# Altium schematic symbol library raspberryPI_footprint.SchLib: 1 symbol
Pins are listed as number, name and electrical type; pins without a type are passive.

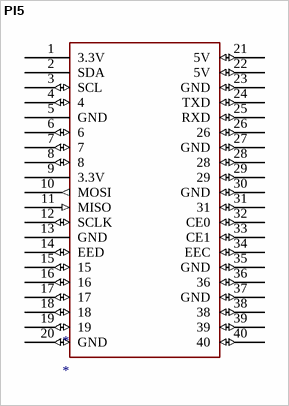
[diagram p0: symbol PI5]

## PI5
designator *
pins: 1 3.3V (power), 2 SDA (power), 3 SCL (io), 4 (io), 5 GND (power), 6 (io), 7 (io), 8 (io), 9 3.3V (power), 10 MOSI (out), 11 MISO (in), 12 SCLK (io), 13 GND (power), 14 EED (io), 15 (io), 16 (io), 17 (io), 18 (io), 19 (io), 20 GND (io), 21 5V (io), 22 5V (io), 23 GND (io), 24 TXD (io), 25 RXD (io), 26 (io), 27 GND (io), 28 (io), 29 (io), 30 GND (io), 31 (io), 32 CE0 (io), 33 CE1 (io), 34 EEC (io), 35 GND (io), 36 (io), 37 GND (io), 38 (io), 39 (io), 40 (io)